# EAGLE library part PIC24F16KA102-I/SP (library PIC24F16KA102-I_SP)
Flash Microcontrollers
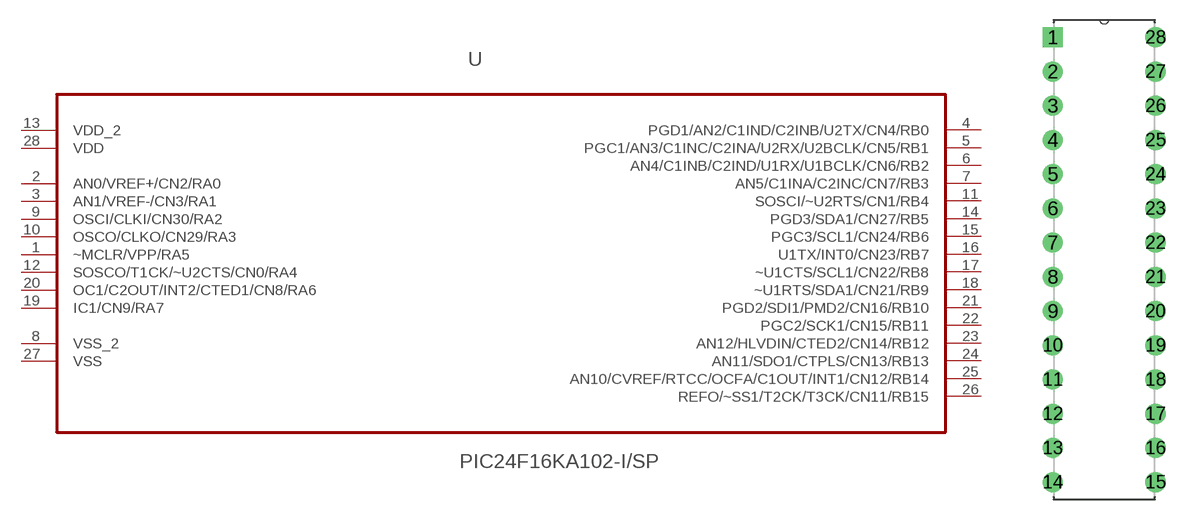
[diagram p0: symbol with the pads of DIP254P762X533-28; footprint DIP254P762X533-28]

Designator prefix -

## PIC24F16KA102-I/SP (AVAILABILITY: Bad; DESCRIPTION: 28-Pin, 16KB Flash, 2KB RAM, 512B EEPROM, 16 MIPS, 19 I/O, 16-Bit PIC24F Family; MF: Microchip; MP: PIC24F16KA102-I/SP; PACKAGE: SPDIP-28 Microchip; PRICE: 2.38 USD)  [DIP254P762X533-28]
1  ~MCLR/VPP/RA5
2  AN0/VREF+/CN2/RA0
3  AN1/VREF-/CN3/RA1
4  PGD1/AN2/C1IND/C2INB/U2TX/CN4/RB0
5  PGC1/AN3/C1INC/C2INA/U2RX/U2BCLK/CN5/RB1
6  AN4/C1INB/C2IND/U1RX/U1BCLK/CN6/RB2
7  AN5/C1INA/C2INC/CN7/RB3
8  VSS_2  pas
9  OSCI/CLKI/CN30/RA2
10  OSCO/CLKO/CN29/RA3
11  SOSCI/~U2RTS/CN1/RB4
12  SOSCO/T1CK/~U2CTS/CN0/RA4
13  VDD_2  pas
14  PGD3/SDA1/CN27/RB5
15  PGC3/SCL1/CN24/RB6
16  U1TX/INT0/CN23/RB7
17  ~U1CTS/SCL1/CN22/RB8
18  ~U1RTS/SDA1/CN21/RB9
19  IC1/CN9/RA7
20  OC1/C2OUT/INT2/CTED1/CN8/RA6
21  PGD2/SDI1/PMD2/CN16/RB10
22  PGC2/SCK1/CN15/RB11
23  AN12/HLVDIN/CTED2/CN14/RB12
24  AN11/SDO1/CTPLS/CN13/RB13
25  AN10/CVREF/RTCC/OCFA/C1OUT/INT1/CN12/RB14
26  REFO/~SS1/T2CK/T3CK/CN11/RB15
27  VSS  pas
28  VDD  pwr

## Footprint DIP254P762X533-28 (pad centres in mm)
drill 0.991 square: 1 -7.62,33.02
drill 0.991: 2 -7.62,30.48; 3 -7.62,27.94; 4 -7.62,25.4; 5 -7.62,22.86; 6 -7.62,20.32; 7 -7.62,17.78; 8 -7.62,15.24; 9 -7.62,12.7; 10 -7.62,10.16; 11 -7.62,7.62; 12 -7.62,5.08; 13 -7.62,2.54; 14 -7.62,0; 15 0,0; 16 0,2.54; 17 0,5.08; 18 0,7.62; 19 0,10.16; 20 0,12.7; 21 0,15.24; 22 0,17.78; 23 0,20.32; 24 0,22.86; 25 0,25.4; 26 0,27.94; 27 0,30.48; 28 0,33.02